# Altium footprint library PCB1.PcbLib: 3 footprints
Each footprint in its own frame and in the unit in brackets; x right, y up, seen from the top. Pads: shape width x height; smd on the part's side, far side on the other; paste and mask are expansions set on the pad; w line width, h text height; cw(c..) or ccw(c..) is an arc to the next point about the centre after c.
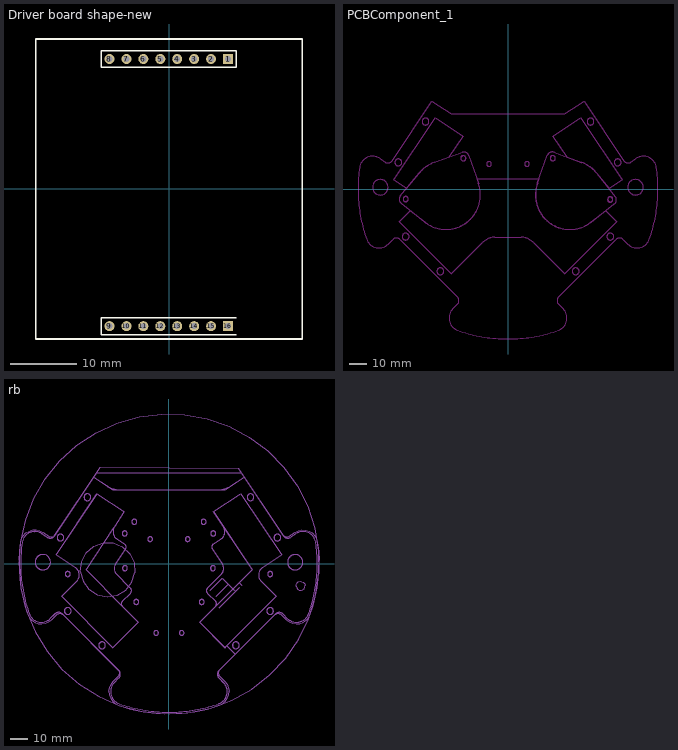
[diagram p0: the footprints below, top view; thin cyan lines are the x and y axes]

## Driver board shape-new [mm]
pads (16):
  rect 1.5x1.5 hole 0.9: 1(8.837,19.489) 16(8.801,-20.589)
  round 1.5 hole 0.9: 2(6.297,19.489) 3(3.757,19.489) 4(1.217,19.489) 5(-1.323,19.489) 6(-3.863,19.489) 7(-6.403,19.489) 8(-8.943,19.489) 9(-8.943,-20.589) 10(-6.403,-20.589) 11(-3.863,-20.589) 12(-1.323,-20.589) 13(1.217,-20.589) 14(3.757,-20.589) 15(6.297,-20.589)
Top Overlay:
  lines w0.2: 10.107,-21.859 -10.213,-21.859 -10.213,-19.319 10.107,-19.319 ; -10.213,18.219 -10.213,20.759 10.107,20.759 10.107,18.219 -10.213,18.219
  lines w0.254: -20.018,-22.511 -20.018,22.489 19.983,22.489 19.982,-22.511 -20.018,-22.511
Bottom Overlay:
  lines w0.2: 10.107,-21.859 10.107,-19.319

## PCBComponent_1 [mm]
Keep-Out Layer:
  circle w0.254: c-25.851,17.749 r1.5
  circle w0.254: c-59.393,-5.814 r1.5
  circle w0.254: c25.971,17.864 r1.5
  circle w0.254: c59.346,-5.933 r1.5
  circle w0.254: c-25.971,17.864 r1.5
  circle w0.254: c-59.346,-5.933 r1.5
  circle w0.254: c63.619,15.443 r2
  circle w0.254: c47.843,39.106 r2
  circle w0.254: c11,14.517 r1.4
  circle w0.254: c-11,14.517 r1.4
  circle w0.254: c-47.843,39.106 r2
  circle w0.254: c-63.619,15.443 r2
  circle w0.254: c-59.355,-27.62 r2
  circle w0.254: c59.355,-27.62 r2
  circle w0.254: c39.244,-47.73 r2
  circle w0.254: c-39.244,-47.73 r2
  circle w0.254: c25.997,17.844 r1.5
  circle w0.254: c59.195,-6.2 r1.5
  lines w0.254: -74.686,5.472 ccw(c-74.05,1.017) -74.361,5.506 ; -33.049,43.517 -44.167,50.929 -67.146,16.462 cw(c-69.642,18.126) -71.306,15.63 -74.48,17.746 ccw(c-78.649,11.492) -86.086,12.579 ccw(c0,0) -81.947,-29.217 ccw(c-74.868,-26.693) -69.553,-32.008 -66.856,-29.311 cw(c-64.735,-31.432) -62.613,-29.311 -29.311,-62.613 cw(c-31.432,-64.734) -29.311,-66.856 -32.008,-69.553 ccw(c-26.693,-74.868) -29.217,-81.947 ccw(c0,0) 29.217,-81.947 ccw(c26.693,-74.868) 32.008,-69.553 29.311,-66.856 cw(c31.432,-64.734) 29.311,-62.613 62.613,-29.311 cw(c64.734,-31.432) 66.856,-29.311 69.553,-32.008 ccw(c74.868,-26.693) 81.947,-29.217 ccw(c0,0) 86.086,12.579 ccw(c78.649,11.492) 74.48,17.746 71.306,15.63 cw(c69.642,18.126) 67.146,16.462 44.167,50.929 33.049,43.517 ; -33.045,43.517 33.053,43.517 ; 42.891,15.23 cw(c35.852,-3.49) 51.444,9.036 62.241,-4.404 cw(c59.903,-6.283) 61.748,-8.648 48.158,-19.256 cw(c35.852,-3.49) 17.035,3.286 22.875,19.506 cw(c25.698,18.49) 26.754,21.298 42.891,15.23 ; 78.145,-0.611 cw(c73.95,1.017) 78.209,-0.437 ; -18.093,6.017 18.093,6.017 ; -18.093,6.017 -17.117,3.241 cw(c-35.983,-3.396) -48.405,-19.071 -56.575,-12.596 -63.002,-19.023 -32.879,-49.145 -14.646,-30.912 cw(c-7.575,-37.983) -7.575,-27.983 7.575,-27.983 cw(c7.575,-37.983) 14.646,-30.912 32.879,-49.145 63.002,-19.023 56.575,-12.596 48.406,-19.07 cw(c35.983,-3.396) 17.116,3.24 18.093,6.017 ; -18.093,6.017 18.093,6.017 ; -66.189,5.278 -42.226,41.222 -26.084,30.461 -33.952,18.659 -42.884,15.376 ccw(c-35.983,-3.396) -51.482,9.245 -58.758,0.324 -66.189,5.278 ; -62.413,-3.973 ccw(c-60.102,-5.886) -61.982,-8.224 -48.546,-19.027 ccw(c-36.013,-3.441) -17.1,3.062 -22.705,19.365 ccw(c-25.542,18.39) -26.557,21.213 -42.781,15.38 ccw(c-36.013,-3.441) -51.422,9.31 -62.413,-3.973 ; 26.084,30.461 42.226,41.222 66.189,5.278 58.759,0.324 51.481,9.246 ccw(c35.983,-3.396) 42.883,15.376 33.952,18.659 26.084,30.461

## rb [mm]
Mechanical 1:
  drawing of 697 lines, arcs and shapes, not listed